# Altium schematic symbol library nogyr.SCHLIB: 16 symbols
Pins are listed as number, name and electrical type; pins without a type are passive.

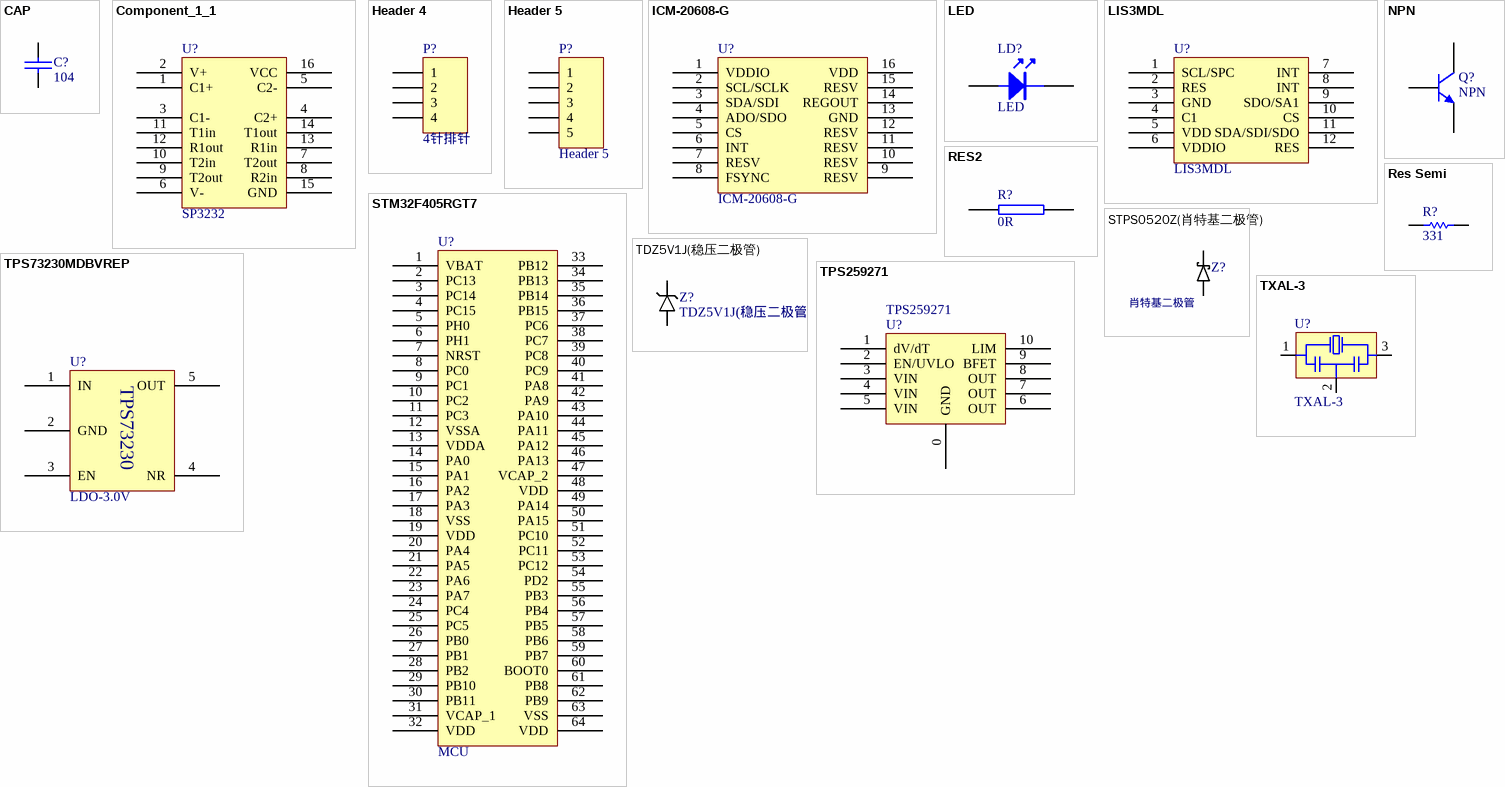
[diagram p0: symbols CAP to TXAL-3]

## CAP
designator C?, comment 104
Capacitor
footprint 0603
footprint 0603C
pins: 1, 2

## Component_1_1
designator U?, comment SP3232
footprint TSSOP-16
pins: 1 C1+, 2 V+, 3 C1-, 4 C2+, 5 C2-, 6 V-, 7 T2out, 8 R2in, 9 T2out, 10 T2in, 11 T1in, 12 R1out, 13 R1in, 14 T1out, 15 GND, 16 VCC

## Header 4
designator P?, comment 4针排针
Header, 4-Pin; LatestRevisionDate: 17-Jul-2002; LatestRevisionNote: Re-released for DXP Platform.; Publisher: Altium Limited
footprint 4p-white
signal-integrity model Connector
pins: 1, 2, 3, 4

## Header 5
designator P?
Header, 5-Pin; LatestRevisionDate: 17-Jul-2002; LatestRevisionNote: Re-released for DXP Platform.; Publisher: Altium Limited
footprint FPC5-1.0
signal-integrity model Connector
pins: 1, 2, 3, 4, 5

## ICM-20608-G
designator U?
footprint ICM-20608-G
pins: 1 VDDIO, 2 SCL/SCLK, 3 SDA/SDI, 4 ADO/SDO, 5 CS, 6 INT, 7 RESV, 8 FSYNC, 9 RESV, 10 RESV, 11 RESV, 12 RESV, 13 GND, 14 REGOUT, 15 RESV, 16 VDD

## LED
designator LD?
footprint c0805 (Chip Capacitor; Body 2.0 x 1.2 mm (LxW typ)); pin to pad A>1 K>2
pins: A 1, K 2

## LIS3MDL
designator U?
footprint LISM3MDL
pins: 1 SCL/SPC, 2 RES, 3 GND, 4 C1, 5 VDD, 6 VDDIO, 7 INT, 8 INT, 9 SDO/SA1, 10 CS, 11 SDA/SDI/SDO, 12 RES

## NPN
designator Q?
NPN Bipolar Transistor; Published: 8-Jun-2000; LatestRevisionDate: 17-Jul-2002; LatestRevisionNote: Re-released for DXP Platform.; PackageReference: TO-226; Publisher: Altium Limited; Code_JEDEC: TO-226-AA
footprint sot-23 (SOT-23; 3 Leads; Body 3.0 x 2.6 mm, inc. leads (LxW max)); pin to pad 1>3 2>1 3>2
simulation model NPN
signal-integrity model NPN
pins: 1 C, 2 B, 3 E

## RES2
designator R?, comment 0R
footprint 0603
pins: 1, 2

## Res Semi
designator R?, comment 331
Semiconductor Resistor; Published: 8-Jun-2000; LatestRevisionDate: 17-Jul-2002; LatestRevisionNote: Re-released for DXP Platform.; PackageReference: AXIAL-0.5; Publisher: Altium Limited; PackageDescription: Axial Device, Thru-Hole; 2 Leads; 0.5 in Pin Spacing; Value: 331
footprint AXIAL-0.5 (Axial Device, Thru-Hole; 2 Leads; 0.5 in Pin Spacing)
simulation model RES (Semiconductor Resistor)
signal-integrity model Res Semi
footprint 0603r
footprint 0603
footprint 0603R
pins: 1, 2

## STM32F405RGT7
designator U?, comment MCU
footprint LQFP64-STM32F405RG (TSQFP, 64-Leads, Body 12.0x12.0mm (max), Pitch 0.50mm, IPC Medium Density)
pins: 1 VBAT, 2 PC13, 3 PC14, 4 PC15, 5 PH0, 6 PH1, 7 NRST, 8 PC0, 9 PC1, 10 PC2, 11 PC3, 12 VSSA, 13 VDDA, 14 PA0, 15 PA1, 16 PA2, 17 PA3, 18 VSS, 19 VDD, 20 PA4, 21 PA5, 22 PA6, 23 PA7, 24 PC4, 25 PC5, 26 PB0, 27 PB1, 28 PB2, 29 PB10, 30 PB11, 31 VCAP_1, 32 VDD, 33 PB12, 34 PB13, 35 PB14, 36 PB15, 37 PC6, 38 PC7, 39 PC8, 40 PC9, 41 PA8, 42 PA9, 43 PA10, 44 PA11, 45 PA12, 46 PA13, 47 VCAP_2, 48 VDD, 49 PA14, 50 PA15, 51 PC10, 52 PC11, 53 PC12, 54 PD2, 55 PB3, 56 PB4, 57 PB5, 58 PB6, 59 PB7, 60 BOOT0, 61 PB8, 62 PB9, 63 VSS, 64 VDD

## STPS0520Z(肖特基二极管)
designator Z?, comment 肖特基二极管
footprint STPS0520Z (肖特基二极管)
pins: 1, 2

## TDZ5V1J(稳压二极管)
designator Z?
footprint TDZ5V1J (齐纳二极管)
pins: 1, 2

## TPS73230MDBVREP
designator U?, comment LDO-3.0V
TPS73230MDBVREP
footprint SOT95P280X145-5N (SOT23, 5-Leads, Body 3.0x3.0mm (max), Pitch 0.95mm, IPC Medium Density)
pins: 1 IN, 2 GND, 3 EN, 4 NR, 5 OUT
text: TPS73230

## TPS259271
designator U?
footprint TPS259231 - duplicate
pins: 0 GND, 1 dV/dT, 2 EN/UVLO, 3 VIN, 4 VIN, 5 VIN, 6 OUT, 7 OUT, 8 OUT, 9 BFET, 10 LIM

## TXAL-3
designator U?
footprint 8M贴片晶振
pins: 1 OSCIN, 2 GND, 3 OSCOUT